# Altium footprint library JST-PH2.PcbLib: 1 footprints
Each footprint in its own frame and in the unit in brackets; x right, y up, seen from the top. Pads: shape width x height; smd on the part's side, far side on the other; paste and mask are expansions set on the pad; w line width, h text height; cw(c..) or ccw(c..) is an arc to the next point about the centre after c.
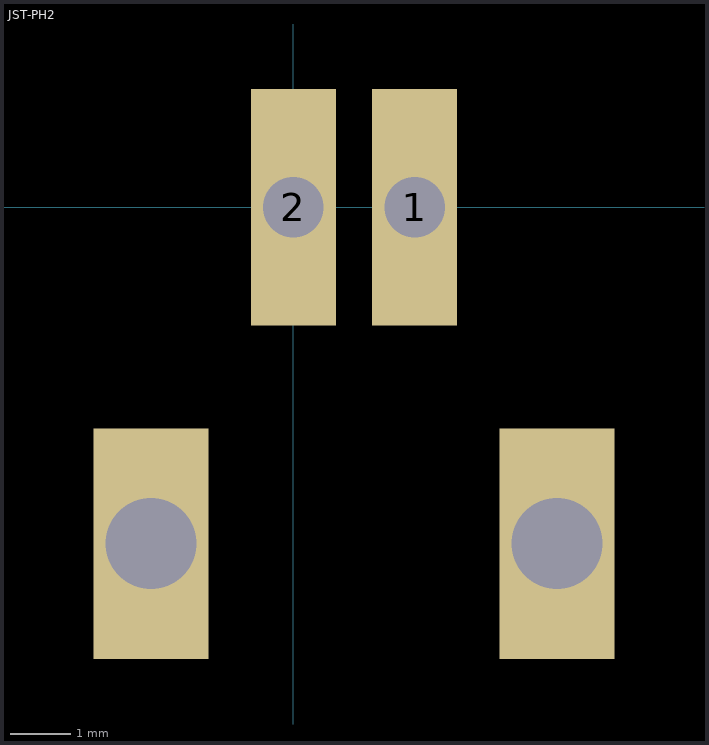
[diagram p0: the footprint, top view; thin cyan lines are the x and y axes]

## JST-PH2 [mm]
pads (4):
  rect 1.4x3.9 hole 1 square: 1(2,0) 2(0,0)
  rect 1.9x3.8 hole 1.5 square: ""(-2.35,-5.55) ""(4.35,-5.55)
3D body: height 5.5, standoff 0, extent -3.202,-7.352 5.202,1.852